# EAGLE library part TLC59208F (library TLC59208F - LED Driver)
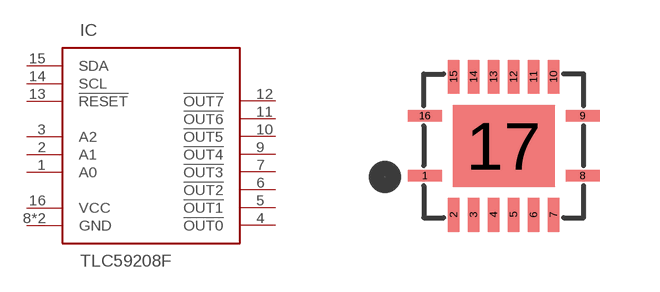
[diagram p0: symbol with the pads of VQFN16; footprint VQFN16]

Designator prefix IC

## TLC59208F  [VQFN16]
1  A0  in
2  A1  in
3  A2  in
4  !OUT0!  out
5  !OUT1!  out
6  !OUT2!  out
7  !OUT3!  out
8  GND  pwr
9  !OUT4!  out
10  !OUT5!  out
11  !OUT6!  out
12  !OUT7!  out
13  !RESET!  in
14  SCL  in
15  SDA
16  VCC  pwr
17  GND  pwr

## Footprint VQFN16 (pad centres in mm)
smd 0.85 x 0.28: 1 -1.975,-0.75; 8 1.975,-0.75; 9 1.975,0.75; 16 -1.975,0.75
smd 0.28 x 0.85: 2 -1.25,-1.725; 3 -0.75,-1.725; 4 -0.25,-1.725; 5 0.25,-1.725; 6 0.75,-1.725; 7 1.25,-1.725; 10 1.25,1.725; 11 0.75,1.725; 12 0.25,1.725; 13 -0.25,1.725; 14 -0.75,1.725; 15 -1.25,1.725
smd 2.55 x 2.05: 17 0,0